# EAGLE library part M25P16-VMN6P (library ICs)
16 Mbit, serial Flash memory, 75 MHz SPI bus interface. Cheap alternative to the Altera EPCS16 device.
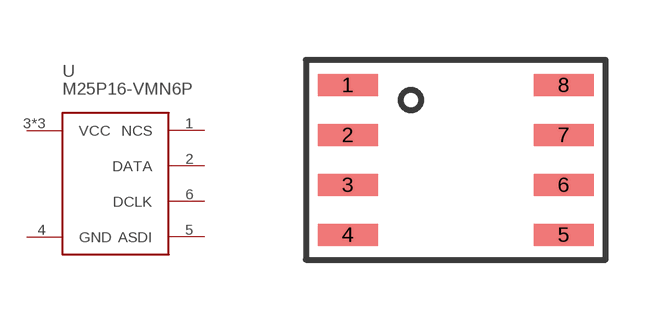
[diagram p52: symbol with the pads of SO8; footprint SO8]

Designator prefix U

## M25P16-VMN6P (FARNELL: 1734973; VALUE: M25P16)  [SO8]
1  NCS
2  DATA
3  VCC
4  GND
5  ASDI
6  DCLK
7  VCC
8  VCC

## Footprint SO8 (pad centres in mm)
smd 1.5 x 0.55: 1 -2.7,1.875; 2 -2.7,0.625; 3 -2.7,-0.625; 4 -2.7,-1.875; 5 2.7,-1.875; 6 2.7,-0.625; 7 2.7,0.625; 8 2.7,1.875